# Altium schematic symbol library ATTiny816.SchLib: 1 symbol
Pins are listed as number, name and electrical type; pins without a type are passive.

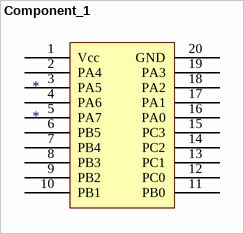
[diagram p0: symbol Component_1]

## Component_1
designator *
footprint SOIC127P1030X265-20N (SOIC, 20-Leads, Body 12,80x7,50mm, Pitch 1,27mm, IPC Medium Density)
pins: 1 Vcc, 2 PA4, 3 PA5, 4 PA6, 5 PA7, 6 PB5, 7 PB4, 8 PB3, 9 PB2, 10 PB1, 11 PB0, 12 PC0, 13 PC1, 14 PC2, 15 PC3, 16 PA0, 17 PA1, 18 PA2, 19 PA3, 20 GND